# Altium footprint library Pad.PcbLib: 42 footprints (part 1 of 3)
Each footprint in its own frame and in the unit in brackets; x right, y up, seen from the top. Pads: shape width x height; smd on the part's side, far side on the other; paste and mask are expansions set on the pad; w line width, h text height; cw(c..) or ccw(c..) is an arc to the next point about the centre after c.
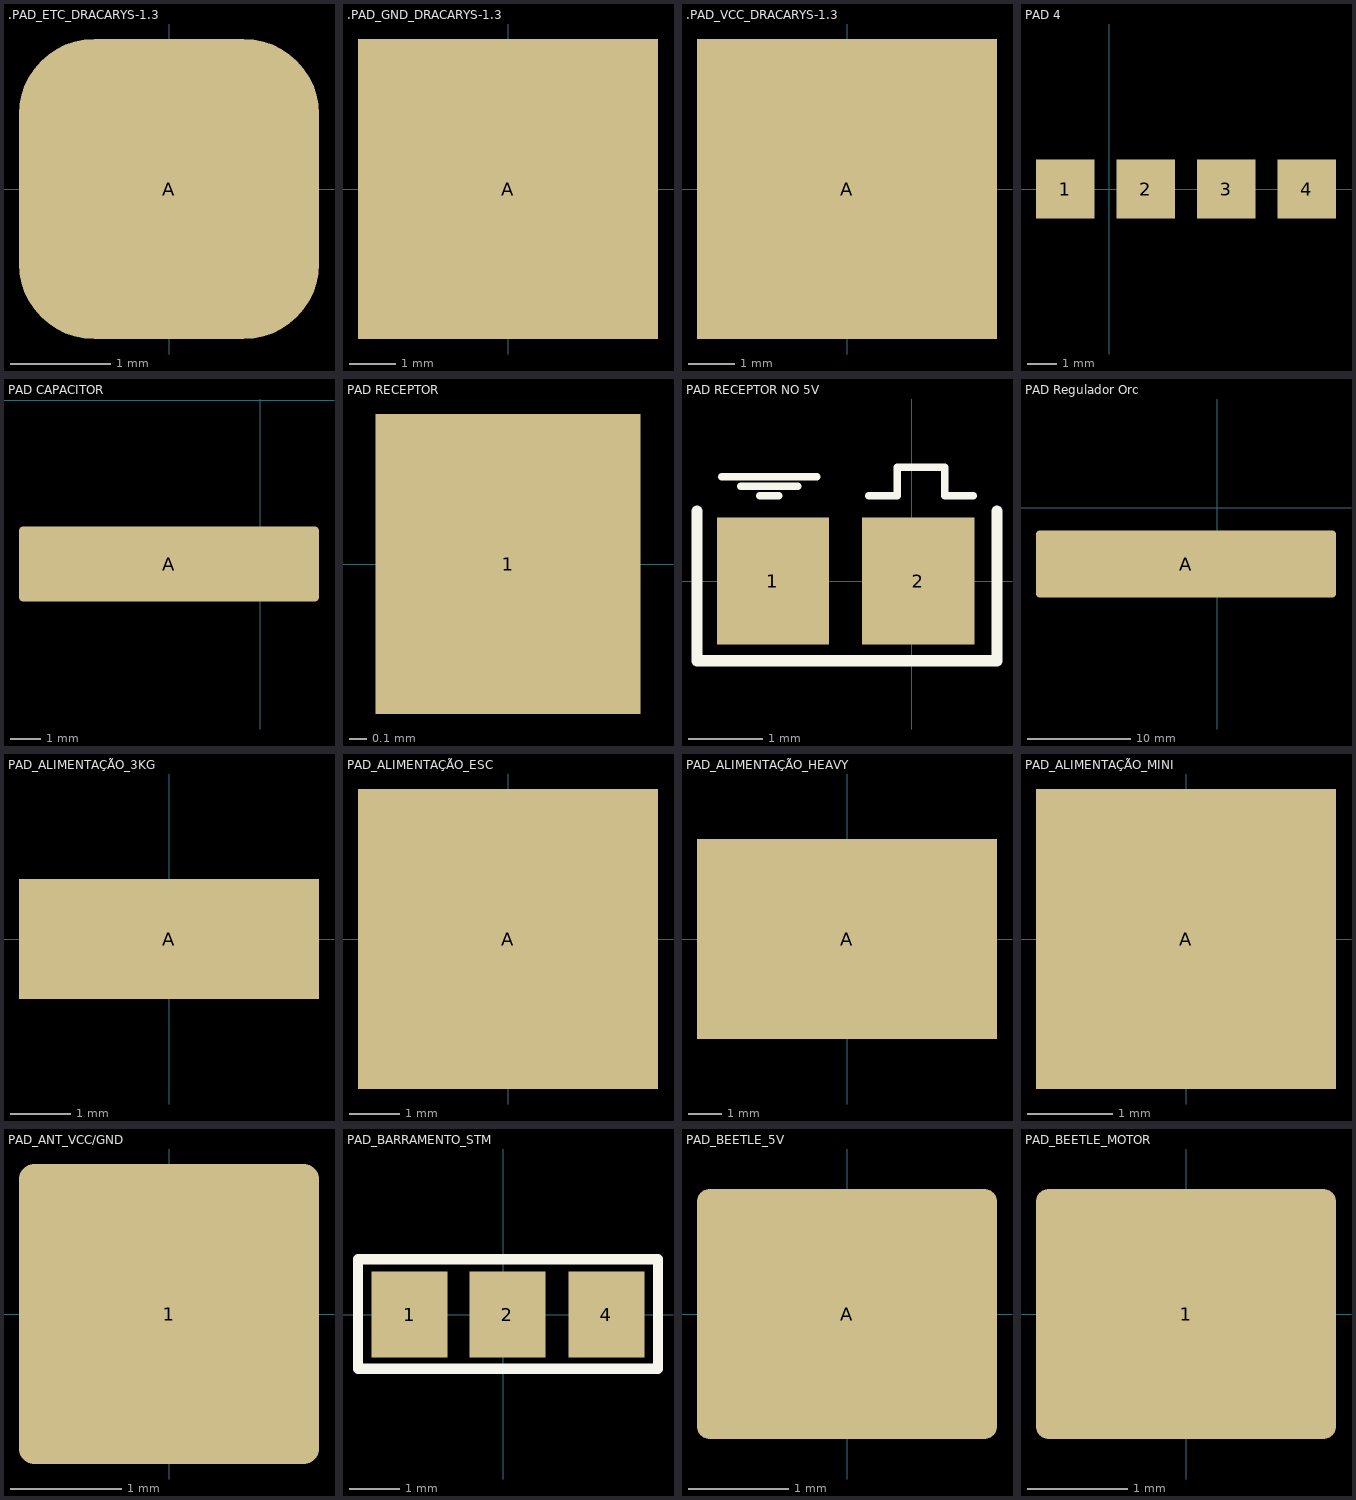
[diagram p0: the footprints below, top view; thin cyan lines are the x and y axes]

## .PAD_ETC_DRACARYS-1.3 [mm]
pads (1):
  rrect50% 3x3 smd: A(0,0)

## .PAD_GND_DRACARYS-1.3 [mm]
pads (1):
  rect 6.5x6.5 smd: A(0,0)

## .PAD_VCC_DRACARYS-1.3 [mm]
pads (1):
  rect 6.5x6.5 smd: A(0,0)

## PAD 4 [mm]
pads (4):
  rect 2x2 smd: 1(-1.5,0) 2(1.25,0) 3(4,0) 4(6.75,0)

## PAD CAPACITOR [mm]
pads (1):
  rrect10% 10x2.5 smd: A(-3.048,-5.461)

## PAD RECEPTOR [mm]
pads (1):
  rect 1.5x1.7 smd: 1(-1.854,0)

## PAD RECEPTOR NO 5V [mm]
pads (2):
  rect 1.5x1.7 smd: 1(-1.854,0) 2(0.089,0)
Top Overlay:
  lines w0.1: -2.54,1.397 -1.27,1.397 ; -2.286,1.27 -1.524,1.27 ; -2.032,1.143 -1.778,1.143 ; -0.572,1.143 -0.191,1.143 -0.191,1.524 0.445,1.524 0.445,1.143 0.826,1.143
  lines w0.15: -2.87,0.933 -2.87,-1.067 1.143,-1.067 1.143,0.933

## PAD Regulador Orc [mm]
pads (1):
  rrect10% 29.2x6.5 smd: A(-3.048,-5.461)

## PAD_ALIMENTAÇÃO_3KG [mm]
pads (1):
  rect 5x2 smd: A(0,0)

## PAD_ALIMENTAÇÃO_ESC [mm]
pads (1):
  rect 6x6 smd: A(0,0)

## PAD_ALIMENTAÇÃO_HEAVY [mm]
pads (1):
  rect 9x6 smd: A(0,0)

## PAD_ALIMENTAÇÃO_MINI [mm]
pads (1):
  rect 3.5x3.5 smd: A(0,0)

## PAD_ANT_VCC/GND [mm]
pads (1):
  rrect10% 2.7x2.7 smd: 1(0,0)

## PAD_BARRAMENTO_STM [mm]
pads (3):
  rect 1.5x1.7 smd: 1(-1.854,0) 2(0.078,0) 4(2.032,0)
Top Overlay:
  lines w0.2: -2.87,-1.067 -2.87,1.092 3.048,1.092 3.048,-1.067 -2.87,-1.067

## PAD_BEETLE_5V [mm]
pads (1):
  rrect10% 3x2.5 smd: A(0,0)

## PAD_BEETLE_MOTOR [mm]
pads (1):
  rrect10% 3x2.5 smd: 1(0,0)